# Altium schematic symbol library STM32F103RDY6TR.SchLib: 1 symbol
Pins are listed as number, name and electrical type; pins without a type are passive.

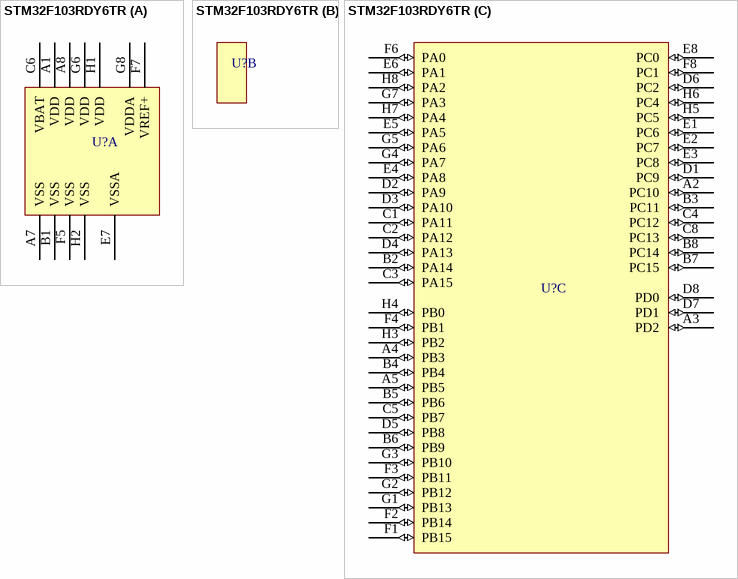
[diagram p0: symbol STM32F103RDY6TR]

## STM32F103RDY6TR
designator U?  (value not drawn)
Mainstream Performance line, Arm Cortex-M3 MCU with 384 Kbytes of Flash memory, 72 MHz CPU, motor control, USB and CAN
part A pins: A1 VDD (power), A7 VSS (power), A8 VDD (power), B1 VSS (power), C6 VBAT (power), E7 VSSA (power), F5 VSS (power), F7 VREF+ (power), G6 VDD (power), G8 VDDA (power), H1 VDD (power), H2 VSS (power)
part C pins: A2 PC10 (io), A3 PD2 (io), A4 PB3 (io), A5 PB5 (io), B2 PA14 (io), B3 PC11 (io), B4 PB4 (io), B5 PB6 (io), B6 PB9 (io), B7 PC15 (io), B8 PC14 (io), C1 PA11 (io), C2 PA12 (io), C3 PA15 (io), C4 PC12 (io), C5 PB7 (io), C8 PC13 (io), D1 PC9 (io), D2 PA9 (io), D3 PA10 (io), D4 PA13 (io), D5 PB8 (io), D6 PC2 (io), D7 PD1 (io), D8 PD0 (io), E1 PC6 (io), E2 PC7 (io), E3 PC8 (io), E4 PA8 (io), E5 PA5 (io), E6 PA1 (io), E8 PC0 (io), F1 PB15 (io), F2 PB14 (io), F3 PB11 (io), F4 PB1 (io), F6 PA0 (io), F8 PC1 (io), G1 PB13 (io), G2 PB12 (io), G3 PB10 (io), G4 PA7 (io), G5 PA6 (io), G7 PA3 (io), H3 PB2 (io), H4 PB0 (io), H5 PC5 (io), H6 PC4 (io), H7 PA4 (io), H8 PA2 (io)